# Altium integrated library 006-0-0002.IntLib: 1 symbol
Pins are listed as number, name and electrical type; pins without a type are passive.

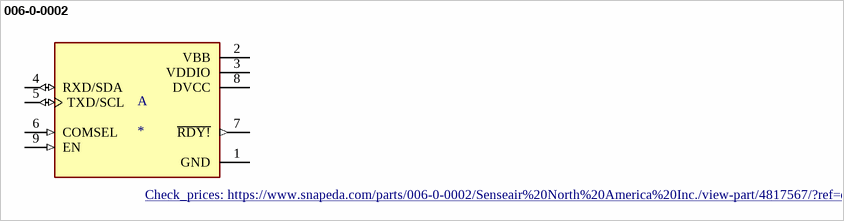
[diagram p0: symbol 006-0-0002]

## 006-0-0002
designator A
Carbon Dioxide (CO2) Sensor; MF: Senseair North America Inc.; Availability: Warning; Price: None; Package: None; DigiKey-Purchase-URL: https://snapeda.com/shop?store=DigiKey&id=4817567; Value: *; SnapEDA_Link: https://www.snapeda.com/parts/006-0-0002/Senseair%20North%20America%20Inc./view-part/4817567/?ref=snap; MP: 006-0-0002; Check_prices: https://www.snapeda.com/parts/006-0-0002/Senseair%20North%20America%20Inc./view-part/4817567/?ref=eda
footprint XDCR_006-0-0002
pins: 1 GND (power), 2 VBB (power), 3 VDDIO (power), 4 RXD/SDA (io), 5 TXD/SCL (io), 6 COMSEL (in), 7 ~{RDY!} (out), 8 DVCC (power), 9 EN (in)